# Altium footprint library Component.PcbLib: 58 footprints (part 3 of 4)
Each footprint in its own frame and in the unit in brackets; x right, y up, seen from the top. Pads: shape width x height; smd on the part's side, far side on the other; paste and mask are expansions set on the pad; w line width, h text height; cw(c..) or ccw(c..) is an arc to the next point about the centre after c.
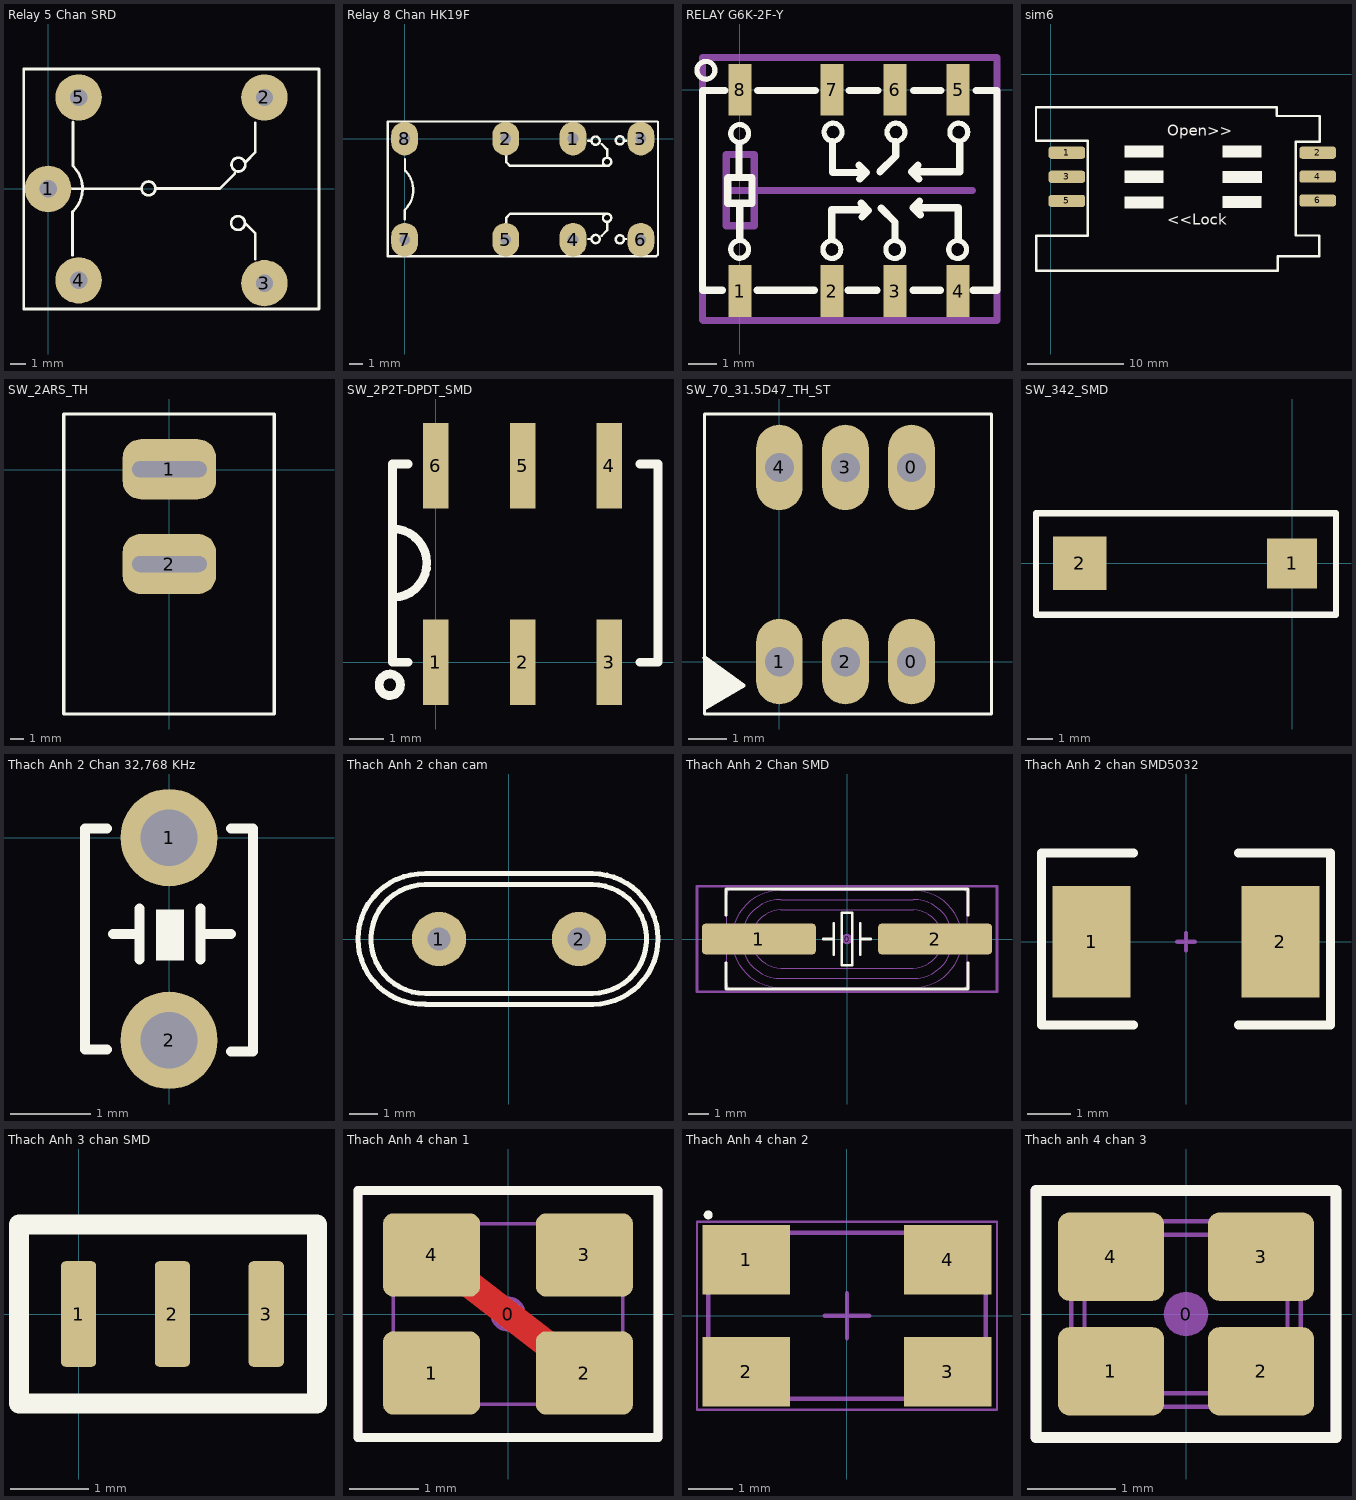
[diagram p2: the footprints below, top view; thin cyan lines are the x and y axes]

## Relay 5 Chan SRD [mil] "Relay SPDT, 5 pin, 10A,W 650mil, L 800mil, H 800mil"
height 800
pads (5):
  round 120 hole 45: 1(0,0) 2(559.06,236.22) 3(559.06,-243.78) 4(78.74,-236.22) 5(78.74,236.22)
Top Overlay:
  circle w7: c491.79,62.82 r17.8
  circle w7: c490.79,-88.18 r17.8
  circle w7: c259.42,1.12 r17.8
  lines w7: 34.97,0.12 239.22,0.12 ; 63.22,-171.88 63.22,-58.88 ; 64.22,-57.88 ccw(c6.72,0.62) 65.22,58.12 ; 64.22,59.12 64.22,173.12 ; 279.22,1.12 443.6,1.12 ; 443.6,1.02 482.6,40.02 ; 508.6,-88.18 535.6,-115.18 535.6,-181.18 ; 509.6,68.82 535.6,94.82 535.6,170.82 ; -63.4,-310.6 700,-310.6 700,310 -63.4,310 -63.4,-310.6
  lines w10: 553.61,232.5 557.91,236.8
3D body "User Library-SONGLE Relay SRU-12VDC-SL-C.STEP": height 602.36, standoff -196.85, extent -55.1,-305.92 696.87,304.32

## Relay 8 Chan HK19F [mil] "Reley DPDT, 8 pin, 1A, W400mil, L800mil,H 300mil"
height 300
pads (8):
  oval 80x100 hole 32: 1(500,0) 2(300,0) 3(701,0) 4(500,-300) 5(300,-300) 6(701,-300) 7(0,-300) 8(0,0)
Top Overlay:
  circle w7: c638.76,-299 r12.24
  circle w7: c566.76,-298 r12.24
  circle w7: c600.76,-235 r12.24
  circle w7: c600.76,-69 r12.24
  circle w7: c566.76,-6 r12.24
  circle w7: c638.76,-5 r12.24
  lines w7: 0,-239 0,-212 ; 1,-211 ccw(c-56.5,-152.5) 2,-95 ; 1,-94 1,-61 ; 302,-255 302,-234 313,-223 599,-223 ; 302,-42 302,-70 313,-81 599,-81 ; 544,-298 552,-298 ; 544,-6 552,-6 ; 585,-288 601,-272 601,-249 ; 585,-16 601,-32 601,-55 ; 653,-298 658,-298 ; 653,-6 658,-6 ; -50,-349 -50,51 750,51 752,49 752,-344 747,-349 -50,-349
3D body "SW3dPS-DSY2Y.STEP": height 484.25, standoff -118.11, extent -59.45,-340 759.45,45.83

## RELAY G6K-2F-Y [mm] "Reley DPDT, 8 pin, 1A, W400mil, L800mil,H 300mil"
height 7.62
pads (8):
  rect 0.8x1.8 smd: 1(0,-7) 2(3.2,-7) 3(5.4,-7) 4(7.6,-7) 5(7.6,0) 6(5.4,0) 7(3.2,0) 8(0,0)
Top Overlay:
  circle w0.178: c-1.179,0.681 r0.311
  circle w0.178: c7.579,-5.556 r0.311
  circle w0.178: c5.392,-5.556 r0.311
  circle w0.178: c3.204,-5.556 r0.311
  circle w0.178: c7.621,-1.469 r0.311
  circle w0.178: c5.433,-1.469 r0.311
  circle w0.178: c3.246,-1.469 r0.311
  circle w0.178: c-0.004,-1.519 r0.311
  circle w0.178: c-0.004,-5.55 r0.311
  lines w0.254: -0.6,-6.975 -1.3,-6.975 -1.3,-0.025 -0.525,-0.025 ; -0.025,-2.975 -0.025,-1.9 ; 0,-5.2 0,-4.025 ; 0.6,-6.975 2.6,-6.975 ; 0.625,-0.025 2.625,-0.025 ; 3.2,-5.2 3.2,-4.175 4.25,-4.175 ; 3.225,-1.8 3.225,-2.875 4.275,-2.875 ; 3.775,-6.975 4.775,-6.975 ; 3.8,-0.025 4.8,-0.025 ; 4.15,-2.625 4.4,-2.875 4.175,-3.1 ; 4.225,-3.95 4.475,-4.2 4.25,-4.425 ; 4.875,-2.85 5.425,-2.3 5.425,-1.8 ; 4.925,-4.125 5.4,-4.6 5.4,-5.2 ; 6.025,-6.975 6.975,-6.975 ; 6.05,-0.025 7,-0.025 ; 6.1,-2.85 7.65,-2.85 7.65,-1.85 ; 6.15,-4.1 7.6,-4.1 7.6,-5.175 ; 6.2,-2.625 5.975,-2.85 6.225,-3.1 ; 6.25,-3.875 6.025,-4.1 6.275,-4.35 ; 8.125,-6.975 8.95,-6.975 8.95,-0.025 8.225,-0.025 ; -0.425,-3.95 0.425,-3.95 0.425,-3.05 -0.4,-3.05 -0.425,-3.075 -0.425,-3.95
Mechanical 1:
  lines w0.254: -0.45,-3.5 8.1,-3.5
Mechanical 13:
  lines w0.254: -1.3,-8 -1.275,-8.025 8.95,-8.025 8.95,1.125 -1.3,1.125 -1.3,-8 ; -0.475,-4.725 -0.475,-2.25 0.5,-2.25 0.5,-4.725 -0.475,-4.725
3D body "G6K-2F-Y 5 VDC.stp": height 5.2, standoff 0, extent -1.175,-7.4 8.825,0.4

## sim6 [mil]
pads (6):
  rrect50% 150x50 smd: 1(65,-320) 2(1088.62,-320) 3(65,-418.43) 4(1088.62,-417.5) 5(65,-516.85) 6(1088.62,-515)
Top Overlay:
  rectangle: 700,-545.67 860,-495.67
  rectangle: 700.79,-444.49 860.79,-394.49
  rectangle: 700,-340 860,-290
  rectangle: 299.84,-548.03 459.84,-498.03
  rectangle: 299.84,-443.31 459.84,-393.31
  rectangle: 300,-340 460,-290
  lines w10: -61.02,-271.26 -61.02,-134.65 921.26,-134.65 921.26,-170.08 1097.24,-170.08 1097.24,-274.8 1000,-274.8 1000,-657.87 1095.28,-657.87 1095.28,-742.91 925.2,-742.91 925.2,-801.57 -60.63,-801.57 -60.63,-659.06 150,-659.06 150,-271.26 -61.02,-271.26
  text "<<Lock" at 475,-615 h45
  text "Open>>" at 475,-250 h45
3D body "User Library-SIM5060-6-0-26-01-A.STEP": height 102.97, standoff -26.96, extent -66.14,-806.69 1100.79,-129.53

## SW_2ARS_TH [mm] "CASE: TH"
height 13.69
pads (2):
  rrect60% 7x4.5 hole 1.2 slot 5.6 at 0 deg mask+0.076: 1(0.025,0.051) 2(0.025,-7.049)
Top Overlay:
  lines w0.254: -7.874,-18.288 7.874,-18.288 7.874,4.191 -0.809,4.191 -7.874,4.191 -7.874,-18.288
3D body "4710368_prasa1-16f-bb0bw.stp": height 17.81, standoff -6.9, extent -7.474,-17.899 7.526,3.801

## SW_2P2T-DPDT_SMD [mm] "PCB Mountable Slide Switch. Double Pole, Double Throw = DPDT"
height 5.5
pads (6):
  rect 0.75x2.5 smd: 1(0,0) 2(2.54,0) 3(5.08,0) 4(5.08,5.75) 5(2.54,5.75) 6(0,5.75)
Top Overlay:
  circle w0.254: c-1.346,-0.66 r0.314
  lines w0.254: -1.27,3.907 cw(c-1.27,2.9) -1.235,1.893 ; -0.813,0 -1.27,0 -1.27,5.8 -0.813,5.8 ; 5.969,0 6.502,0 6.502,5.8 5.969,5.8
3D body "User Library-CKSW-GT21MSCBE.step": height 10.92, standoff 0, extent -0.965,-0.614 6.045,6.426

## SW_70_31.5D47_TH_ST [mm] "CASE: TH"
height 12
pads (6):
  oval 1.2x2.2 hole 0.75: 0(3.4,0) 0(3.4,5) 1(0,0) 2(1.7,0) 3(1.7,5) 4(0,5)
Top Overlay:
  region: -1.981,0.102 -1.93,0.051 -1.93,-1.143 -1.524,-0.965 -0.965,-0.584
  lines w0.076: -1.93,-1.346 5.461,-1.346 5.461,6.375 -1.93,6.375 -1.93,-1.346
  lines w0.127: -1.915,0.097 -0.94,-0.61 -1.902,-1.173
3D body "Toggle Button (7 x 7 x 12mm) - Latching.stp": height 13.54, standoff -3.23, extent -1.74,-0.914 5.296,5.995

## SW_342_SMD [mm] "CASE: SMD"
height 2.5
pads (2):
  rect 2x2 smd: 1(0,0)
  rect 2.15x2.15 smd: 2(-8.5,0)
Top Overlay:
  lines w0.254: -10.25,-2.057 1.75,-2.057 1.75,2 -10.25,2 -10.25,-2.057
3D body: height 2.4, standoff 0.1, extent -7.171,-1.793 -1.171,1.707

## Thach Anh 2 Chan 32,768 KHz [mil]
pads (2):
  round 48 hole 28: 1(0,0) 2(0,-100)
Top Overlay:
  rectangle: -6.5,-60.5 7.5,-35.5
  lines w5: -30.5,-104.5 -41.5,-104.5 -41.5,4.5 -30.5,4.5 ; -27.5,-47.5 -14.5,-47.5 ; -14.5,-60 -14.5,-35 ; 15.5,-60 15.5,-35 ; 15.5,-47.5 30.5,-47.5 ; 30.5,-105.5 41.5,-105.5 41.5,4.5 30.5,4.5
3D body "User Library-R38_100mils.STEP": height 66.34, standoff -16.34, extent -119.57,-104.5 321.37,5.73

## Thach Anh 2 chan cam [mm]
pads (2):
  round 1.905 hole 0.8: 1(-2.45,0) 2(2.45,0)
Top Overlay:
  lines w0.178: -2.939,1.905 ccw(c-2.927,0) -2.921,-1.905 2.921,-1.905 ccw(c2.908,0) 2.903,1.905 ; -2.922,-2.283 cw(c-2.998,0.001) -2.921,2.286 2.921,2.286 cw(c2.928,0) 2.943,-2.286 ; -2.921,-2.286 2.921,-2.286 ; -2.921,1.905 2.921,1.905
3D body "SW3dPS-HP49US.STEP": height 3.5, standoff -4, extent -5.675,-2.364 5.675,2.286

## Thach Anh 2 Chan SMD [mm] "SMD Crystal HC49/US-SM package"
height 4.3
pads (3):
  round 0.508 on Mech15: 0(0,0)
  rrect25% 5.5x1.5 smd: 1(-4.25,0) 2(4.25,0)
Top Overlay:
  lines w0.127: -5.842,-1.143 -5.842,-2.413 5.842,-2.413 5.842,-1.143 ; -5.842,1.143 -5.842,2.413 5.842,2.413 5.842,1.143 ; -1.143,0 -0.635,0 ; -0.635,-0.762 -0.635,0.762 ; 0.635,-0.762 0.635,0.762 ; 0.635,0 1.143,0 ; -0.254,-1.27 0.254,-1.27 0.254,1.27 -0.254,1.27 -0.254,-1.27
Mechanical 13:
  lines w0.05: -5.8,-0.45 -6.4,-0.45 -6.4,0.45 -5.8,0.45 ; 5.8,-0.45 6.4,-0.45 6.4,0.45 5.8,0.45 ; -5.8,-2.165 ccw(c-5.55,-2.165) -5.55,-2.415 5.55,-2.415 ccw(c5.55,-2.165) 5.8,-2.165 5.8,2.165 ccw(c5.55,2.165) 5.55,2.415 -5.55,2.415 ccw(c-5.55,2.165) -5.8,2.165 -5.8,-2.165 ; -3.2,-2.35 cw(c-3.2,0) -3.2,2.35 3.2,2.35 cw(c3.2,0) 3.2,-2.35 -3.2,-2.35 ; -3.2,-1.9 cw(c-3.2,0) -3.2,1.9 3.2,1.9 cw(c3.2,0) 3.2,-1.9 -3.2,-1.9 ; -3.2,-1.4 cw(c-3.2,0) -3.2,1.4 3.2,1.4 cw(c3.2,0) 3.2,-1.4 -3.2,-1.4
Mechanical 15:
  lines w0.127: -7.239,-2.54 7.239,-2.54 7.239,2.54 -7.239,2.54 -7.239,-2.54
3D body "Crystal HC49_US-SM.STEP": height 4.29, standoff -0.01, extent -6.4,-2.415 6.4,2.415

## Thach Anh 2 chan SMD5032 [mil] "DO-214-AA/SMB; 2 C-Bend Leads; Body 5.3 x 3.6 mm, inc. leads (LxW)"
height 100
pads (2):
  rect 70x100 smd: 1(-85,0) 2(85,0)
Top Overlay:
  lines w7.87: -47.24,-75 -130,-75 -130,80 -47.24,80 ; 47.24,-75 130,-75 130,80 47.24,80
Mechanical 1:
  lines w3.94: -7.87,0 7.87,0 ; 0,-7.87 0,7.87
3D body "User Library-ABM3-1.STEP": height 51.18, standoff 0, extent -98.42,-62.99 98.43,63

## Thach Anh 3 chan SMD [mm] "SMD Crystal CMR309T package"
height 3.1
pads (3):
  rrect25% 0.45x1.35 smd: 1(0,0) 2(1.2,0) 3(2.4,0)
Top Overlay:
  lines w0.254: -0.762,-1.143 -0.762,1.143 3.048,1.143 3.048,-1.143 -0.762,-1.143
3D body "SW3dPS-CSTCE_V-1.STEP": height 1.02, standoff -0.09, extent -0.411,-0.627 2.789,0.673

## Thach Anh 4 chan 1 [mm] "SMD Crystal 4-lead leadless package"
height 0.8
pads (5):
  round 0.508 on Mech15: 0(0,0)
  rrect25% 1.4x1.2 smd: 1(-1.1,-0.85) 2(1.1,-0.85) 3(1.1,0.85) 4(-1.1,0.85)
Top Layer:
  lines w0.4: -1.1,0.85 1.1,-0.85
Top Overlay:
  lines w0.127: -2.159,-1.778 -2.159,1.778 2.159,1.778 2.159,-1.778 -2.159,-1.778
Mechanical 13:
  lines w0.05: -1.65,-1.143 -1.493,-1.3 1.493,-1.3 1.65,-1.143 1.65,1.144 1.494,1.3 -1.493,1.3 -1.65,1.143 -1.65,-1.143
Mechanical 15:
  lines w0.127: -2.159,-1.778 2.159,-1.778 2.159,1.778 -2.159,1.778 -2.159,-1.778
3D body "Crystal TXC Corp 7M series.STEP": height 0.8, standoff 0, extent -1.65,-1.3 1.65,1.3

## Thach Anh 4 chan 2 [mm]
height 1.1
pads (4):
  rect 1.95x1.55 smd: 1(-2.25,1.25) 2(-2.25,-1.25) 3(2.25,-1.25) 4(2.25,1.25)
Top Overlay:
  circle w0.1: c-3.1,2.25 r0.05
Mechanical 1:
  lines w0.1: -3.1,-1.85 3.1,-1.85 3.1,1.85 -3.1,1.85 -3.1,-1.85
Mechanical 15:
  lines w0.05: -3.35,-2.1 3.35,-2.1 3.35,2.1 -3.35,2.1 -3.35,-2.1
  lines w0.1: -0.5,0 0.5,0 ; 0,-0.5 0,0.5
3D body "DFN3127P600-8N.step": height 1.1, standoff 0, extent -3.1,-1.95 3.9,1.95

## Thach anh 4 chan 3 [mm] "SMD Crystal 4-lead leadless package"
height 0.55
pads (5):
  round 0.508 on Mech15: 0(0,0)
  rrect25% 1.2x1 smd mask+0.075: 1(-0.85,-0.65) 2(0.85,-0.65) 3(0.85,0.65) 4(-0.85,0.65)
Top Overlay:
  lines w0.127: -1.7,-1.4 -1.7,1.4 1.7,1.4 1.7,-1.4 -1.7,-1.4
Mechanical 13:
  lines w0.05: -1.3,-0.87 cw(c-1.3,-1.05) -1.12,-1.05 1.12,-1.05 cw(c1.3,-1.05) 1.3,-0.87 1.3,0.87 cw(c1.3,1.05) 1.12,1.05 -1.12,1.05 cw(c-1.3,1.05) -1.3,0.87 -1.3,-0.87 ; -1.15,-0.75 ccw(c-1,-0.75) -1,-0.9 1,-0.9 ccw(c1,-0.75) 1.15,-0.75 1.15,0.75 ccw(c1,0.75) 1,0.9 -1,0.9 ccw(c-1,0.75) -1.15,0.75 -1.15,-0.75
Mechanical 15:
  lines w0.127: -1.7,-1.4 1.7,-1.4 1.7,1.4 -1.7,1.4 -1.7,-1.4
3D body "Crystal NDK NX2520SA series.STEP": height 0.55, standoff 0, extent -1.3,-1.05 1.3,1.05